# Altium schematic symbol library LM337L.Schlib: 1 symbol
Pins are listed as number, name and electrical type; pins without a type are passive.

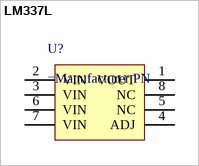
[diagram p0: symbol LM337L]

## LM337L
designator U?
Negative Linear Regulator 8-pin package
pins: 1 VOUT, 2 VIN, 3 VIN, 4 ADJ, 5 NC, 6 VIN, 7 VIN, 8 NC